# EAGLE library part MALE_1X6 (library be_con_jump)
edited: Mario Blunk / Blunk electronic
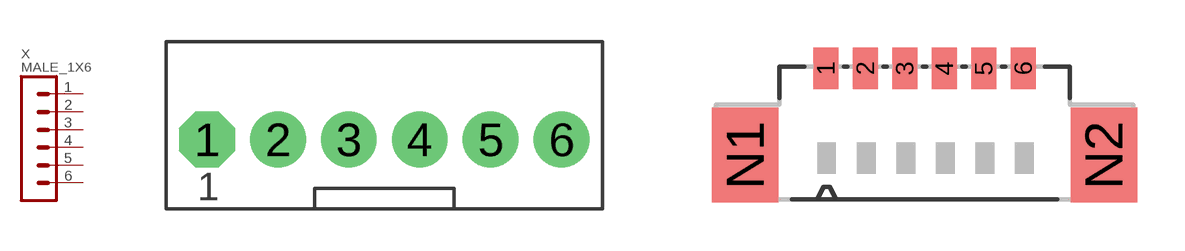
[diagram p3: symbol with the pads of T_MALE_6X1_PSS254_6G_VERTICAL; footprints T_MALE_6X1_PSS254_6G_VERTICAL, S_MALE_1X6_MOLEX]

Designator prefix X

## MALE_1X6-T-0 (BOM: YES; COMMISSIONED: 2013-08-30; PART_CODE_BEL: X_PAC_T_MALE_6X1_PSS254_6G_VERTICAL)  [T_MALE_6X1_PSS254_6G_VERTICAL]
1  1  pas
2  2  pas
3  3  pas
4  4  pas
5  5  pas
6  6  pas

## MALE_1X6-S-VERTICAL (BOM: YES; COMMISSIONED: 2013-08-30; PART_CODE_BEL: X_PAC_S_MALE_6X1_MOLEX_PART_CODE_0533980671)  [S_MALE_1X6_MOLEX]
Pads as for T_MALE_6X1_PSS254_6G_VERTICAL

## MALE_1X6-T-VERTICAL_PITCH_2MM54 (BOM: YES; COMMISSIONED: 2013-08-30; PART_CODE_BEL: X_PAC_T_MALE_1X6_VERTICAL_PITCH_2mm54)  [T_MALE_1X6_VERTICAL_PITCH_2MM54]
Pads as for T_MALE_6X1_PSS254_6G_VERTICAL

## MALE_1X6-T-VERTICAL_2MM (BOM: YES; COMMISSIONED: 2013-11-19; PART_CODE_BEL: X_PAC_T_MALE_6X1_VERTICAL_2mm)  [T_MALE_6X1_VERTICAL_2MM]
Pads as for T_MALE_6X1_PSS254_6G_VERTICAL

## MALE_1X6-S-VERTICAL_2.54MM (BOM: YES; COMMISSIONED: 2014-02-03; PART_CODE_BEL: X_PAC_S_MALE_1X6_VERTICAL)  [S_MALE_6X1_VERTICAL]
Pads as for T_MALE_6X1_PSS254_6G_VERTICAL

## MALE_1X6-T-VERTICAL_1.27MM (BOM: YES; COMMISSIONED: 2014-03-19; PART_CODE_BEL: X_PAC_T_MALE_6X1_VERTICAL_1.27mm)  [T_MALE_6X1_VERTICAL_1.27MM]
Pads as for T_MALE_6X1_PSS254_6G_VERTICAL

## MALE_1X6-S-VERTICAL_1.27MM (BOM: YES; COMMISSIONED: 2014-03-20; PART_CODE_BEL: X_PAC_S_MALE_1X6_VERTICAL_1.27mm)  [S_MALE_6X1_VERTICAL_1.27MM]
Pads as for T_MALE_6X1_PSS254_6G_VERTICAL

## MALE_1X6-S-VERTICAL_2MM (BOM: YES; COMMISSIONED: 2014-03-20; PART_CODE_BEL: X_PAC_S_MALE_1X6_VERTICAL_2mm)  [S_MALE_6X1_VERTICAL_2MM]
Pads as for T_MALE_6X1_PSS254_6G_VERTICAL

## MALE_1X6-T-HORIZONTAL_PITCH_2MM54 (BOM: YES; COMMISSIONED: 2019-05-16; PART_CODE_BEL: X_PAC_T_MALE_1X6_HORIZONTAL_PITCH_2mm54)  [T_MALE_1X6_HORIZONTAL_PITCH_2MM54]
Pads as for T_MALE_6X1_PSS254_6G_VERTICAL

## Footprint T_MALE_6X1_PSS254_6G_VERTICAL (pad centres in mm)
male connector package 6x1 drawn: Mario Blunk / Blunk electronic date: 2013-03-21
drill 1.016 pad 2 octagon: 1 -6.35,0
drill 1.016 pad 2: 2 -3.81,0; 3 -1.27,0; 4 1.27,0; 5 3.81,0; 6 6.35,0

## Footprint S_MALE_1X6_MOLEX (pad centres in mm)
male 1x6 MOLEX PART CODE 0533980671 edited: Mario Blunk / Blunk electronic date: 2013-07-18
smd 0.8 x 1.3: 1 -3.125,2.75; 2 -1.875,2.75; 3 -0.625,2.75; 4 0.625,2.75; 5 1.875,2.75; 6 3.125,2.75
smd 2.1 x 3: N1 -5.675,0; N2 5.675,0

## Footprint T_MALE_1X6_VERTICAL_PITCH_2MM54 (pad centres in mm)
edited: Mario Blunk / Blunk electronic date: 2018-08-01
drill 1.016 square: 1 0,6.35
drill 1.016 octagon: 2 0,3.81; 3 0,1.27; 4 0,-1.27; 5 0,-3.81; 6 0,-6.35

## Footprint T_MALE_6X1_VERTICAL_2MM (pad centres in mm)
male header package drawn: Mario Blunk / Blunk electronic date: 2013-11-18
drill 0.8 square: 1 0,-5
drill 0.8 octagon: 2 0,-3; 3 0,-1; 4 0,1; 5 0,3; 6 0,5

## Footprint S_MALE_6X1_VERTICAL (pad centres in mm)
male header package 6x1 drawn: Mario Blunk / Blunk electronic date: 2014-02-03
smd 4 x 1.5: 1 1.27,6.35; 2 -1.27,3.81; 3 1.27,1.27; 4 -1.27,-1.27; 5 1.27,-3.81; 6 -1.27,-6.35

## Footprint T_MALE_6X1_VERTICAL_1.27MM (pad centres in mm)
male header package drawn: Mario Blunk / Blunk electronic date: 2014-03-19
drill 0.7 pad 1.05 square: 1 0,-2.54
drill 0.7 pad 1.05 octagon: 2 0,-1.27; 3 0,0; 4 0,1.27; 5 0,2.54; 6 0,3.81

## Footprint S_MALE_6X1_VERTICAL_1.27MM (pad centres in mm)
male header package 6x1 drawn: Mario Blunk / Blunk electronic date: 2014-03-20
smd 3 x 1: 1 0.87,3.175; 2 -0.87,1.905; 3 0.87,0.635; 4 -0.87,-0.635; 5 0.87,-1.905; 6 -0.87,-3.175

## Footprint S_MALE_6X1_VERTICAL_2MM (pad centres in mm)
male header package 6x1 drawn: Mario Blunk / Blunk electronic date: 2014-03-20
smd 3 x 1.5: 1 1,5; 2 -1,3; 3 1,1; 4 -1,-1; 5 1,-3; 6 -1,-5

## Footprint T_MALE_1X6_HORIZONTAL_PITCH_2MM54 (pad centres in mm)
edited: Mario Blunk / Blunk electronic date: 2019-05-16
drill 1.016 square: 1 -6.35,0
drill 1.016 octagon: 2 -3.81,0; 3 -1.27,0; 4 1.27,0; 5 3.81,0; 6 6.35,0